# EAGLE library part LD39100PURY (library linear regulators)
Linear Voltage Regulator IC Positive Adjustable 1 Output 0.8 V ~ 4.5 V 1A 6-DFN (3x3)
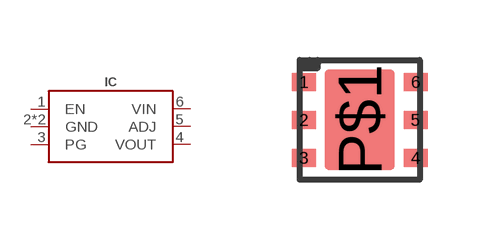
[diagram p0: symbol with the pads of DFN-6(3X3); footprint DFN-6(3X3)]

Designator prefix IC

## LD39100PURY (DIGIKEY#: 497-16701-1-ND; MANF: STMicroelectronics; MANF#: LD39100PURY)  [DFN-6(3X3)]
1  EN
2  GND
3  PG
4  VOUT
5  ADJ
6  VIN
P$1  GND

## Footprint DFN-6(3X3) (pad centres in mm)
smd 0.6 x 0.45: 1 -1.4,0.95; 2 -1.4,0; 3 -1.4,-0.95; 4 1.4,-0.95; 5 1.4,0; 6 1.4,0.95
smd 1.75 x 2.5: P$1 0,0